# EAGLE library part LOWPASSFILTER (library microbuilder)
Low Pass Filter - RF Signal Filter 0603 869MHz Low Pass Filter - Digikey: 712-1118-1-ND
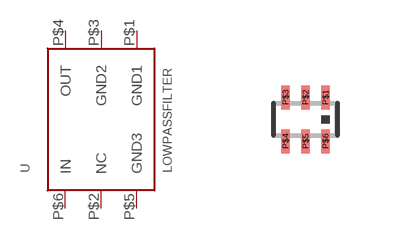
[diagram p47: symbol with the pads of LOWPASSFILTER0603; footprint LOWPASSFILTER0603]

Designator prefix U

## LOWPASSFILTER  [LOWPASSFILTER0603]
P$1  GND1
P$2  NC
P$3  GND2
P$4  OUT
P$5  GND3
P$6  IN

## Footprint LOWPASSFILTER0603 (pad centres in mm)
smd 0.2 x 0.6: P$1 0.5,0.55; P$2 0,0.55; P$3 -0.5,0.55; P$4 -0.5,-0.55; P$5 0,-0.55; P$6 0.5,-0.55